# EAGLE library part GARMIN_LIDAR_LITE (library SparkFun-Sensors)
This is a device for the Garmin LIDAR Lite v4 <https://www.sparkfun.com/products/15776>.
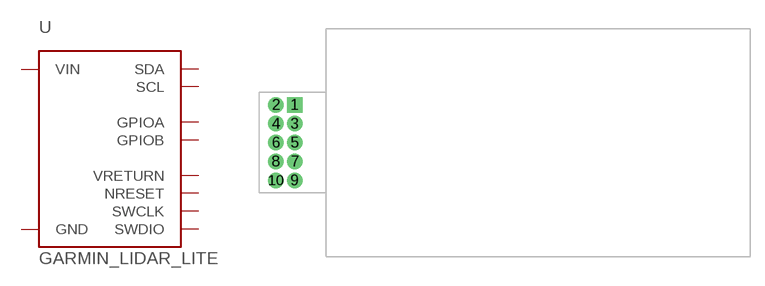
[diagram p0: symbol with the pads of 5X2_2MM; footprint 5X2_2MM]

Designator prefix U

## GARMIN_LIDAR_LITE5X2_2MM (PROD_ID: SEN-14784, CONN-15822)  [5X2_2MM]
1  VIN  pwr
2  GND  pwr
3  SDA
4  SCL
5  GPIOA  out
6  GPIOB  out
7  VRETURN
8  NRESET
9  SWCLK
10  SWDIO

## Footprint 5X2_2MM (pad centres in mm)
drill 1.016 pad 1.651 square: 1 1,4
drill 1.016 pad 1.651: 2 -1,4; 3 1,2; 4 -1,2; 5 1,0; 6 -1,0; 7 1,-2; 8 -1,-2; 9 1,-4; 10 -1,-4